# Altium footprint library CON TFM-115-02-x-D.PcbLib: 1 footprints
Each footprint in its own frame and in the unit in brackets; x right, y up, seen from the top. Pads: shape width x height; smd on the part's side, far side on the other; paste and mask are expansions set on the pad; w line width, h text height; cw(c..) or ccw(c..) is an arc to the next point about the centre after c.
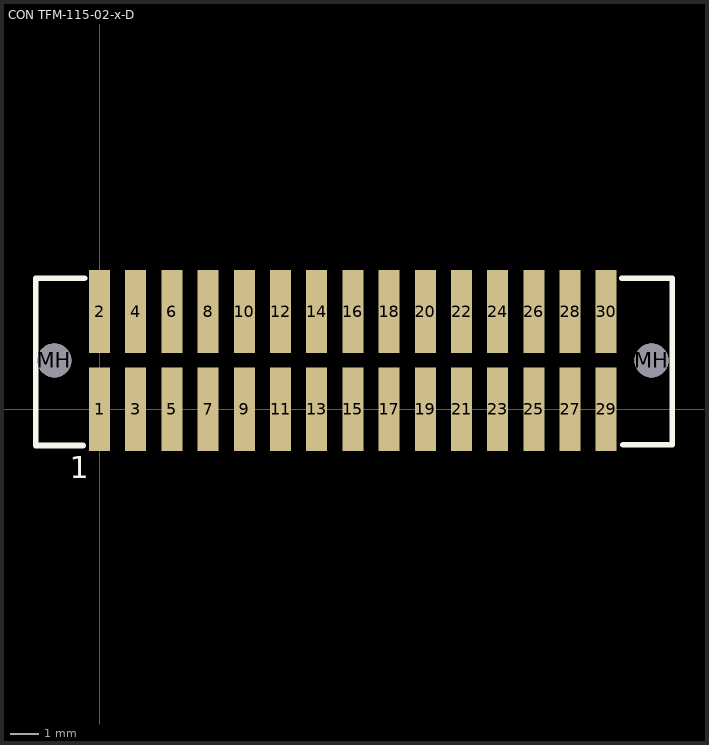
[diagram p0: the footprint, top view; thin cyan lines are the x and y axes]

## CON TFM-115-02-x-D [mil] "Samtec CON CON TFM-115-02-x-D Surface Mount Connector"
pads (32):
  rect 29x115 smd: 1(0,0) 2(0,135) 3(50,0) 4(50,135) 5(100,0) 6(100,135) 7(150,0) 8(150,135) 9(200,0) 10(200,135) 11(250.14,0.06) 12(250.14,135) 13(299.87,0.06) 14(299.87,135) 15(350.08,0.06) 16(350.08,135) 17(400,0) 18(400,135) 19(450,0) 20(450,135) 21(500,0) 22(500,135) 23(550,0) 24(550,135) 25(600,0) 26(600,135) 27(650.14,0.06) 28(650.14,135) 29(699.87,0.06) 30(699.87,135)
  round 47 hole 47 unplated: MH(-62.5,67.5) MH(762.5,67.5)
TopOverlay:
  lines w8: -22.67,-50 -88,-50 -88,-15.72 -88,181 -20.85,181 ; 721.2,181 791,181 791,-49 723.01,-49
  text "1" at -41,-95 h30
3D body: height 220.6, standoff -49.4, extent -87.5,-47.5 787.5,182.5